# EAGLE library part TDA8541 (library Audio-Power-amlifier V.2.0)
The TDA8541(T) is a one channel audio power amplifier for an output power of 1 W with an 8 Ω load at a 5 V supply. The circuit contains a BTL amplifier with a complementary PNP-NPN output stage and standby/mute logic. The TDA8541T comes in an 8 pin SO package and the TDA8541 in an 8 pin DIP package.
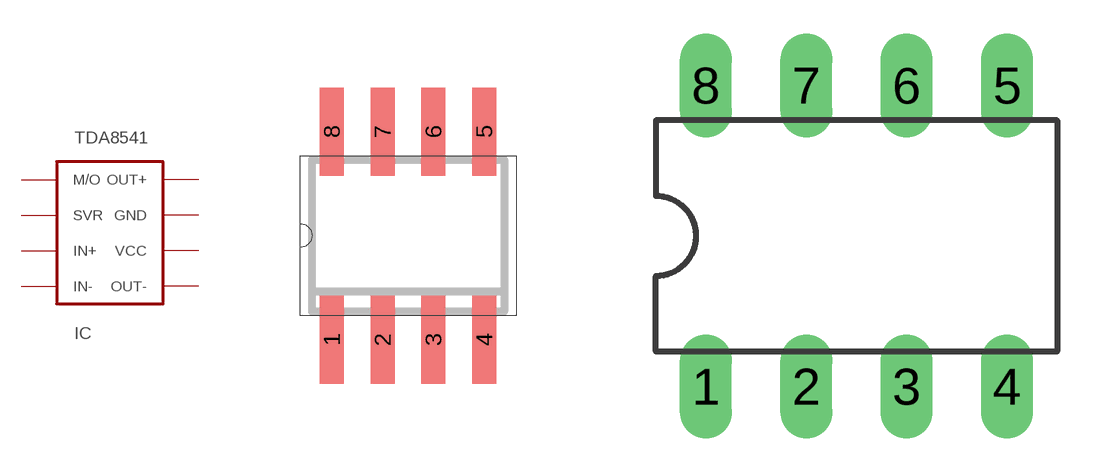
[diagram p82: symbol with the pads of SOT96-1; footprints SOT96-1, SOT97-1]

Designator prefix IC

## TDA8541SO8  [SOT96-1]
1  M/O  in
2  SVR  in
3  IN+  in
4  IN-  in
5  OUT-  out
6  VCC  pwr
7  GND  pwr
8  OUT+  out

## TDA8541DIL8  [SOT97-1]
Pads as for SOT96-1

## Footprint SOT96-1 (pad centres in mm)
Small Outline Narrow Plastic Gull Wing 150-mil body, package type SN
smd 0.6 x 2.2: 1 -1.905,-2.6; 2 -0.635,-2.6; 3 0.635,-2.6; 4 1.905,-2.6; 5 1.905,2.6; 6 0.635,2.6; 7 -0.635,2.6; 8 -1.905,2.6

## Footprint SOT97-1 (pad centres in mm)
Dual In Line Package
drill 0.813 long: 1 -3.81,-3.81; 2 -1.27,-3.81; 3 1.27,-3.81; 4 3.81,-3.81; 5 3.81,3.81; 6 1.27,3.81; 7 -1.27,3.81; 8 -3.81,3.81